# Altium schematic symbol library con-berg.SCHLIB: 4 symbols
Pins are listed as number, name and electrical type; pins without a type are passive.

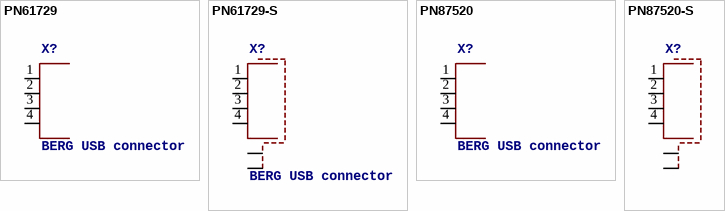
[diagram p0: symbols PN61729 to PN87520-S]

## PN61729
designator X?, comment BERG USB connector
OC_FARNELL: unknown; OC_NEWARK: unknown
footprint PN61729
pins: 1, 2, 3, 4

## PN61729-S
designator X?, comment BERG USB connector
OC_FARNELL: unknown; OC_NEWARK: unknown
footprint PN61729-S
pins: 1, 2, 3, 4, S1, S2

## PN87520
designator X?, comment BERG USB connector
OC_FARNELL: unknown; OC_NEWARK: unknown
footprint PN87520
pins: 1, 2, 3, 4

## PN87520-S
designator X?
OC_FARNELL: unknown; OC_NEWARK: unknown
footprint PN87520-S
pins: 1, 2, 3, 4, S1, S2